# Altium schematic symbol library VoxPopuli.SCHLIB: 2 symbols
Pins are listed as number, name and electrical type; pins without a type are passive.

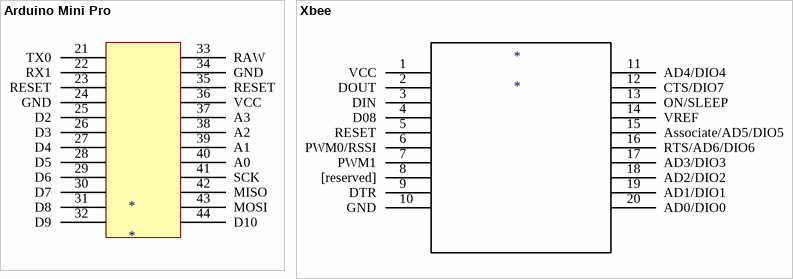
[diagram p0: symbols Arduino Mini Pro to Xbee]

## Arduino Mini Pro
designator *
Arduino Board
footprint Arduino DIP
pins: 21 TX0, 22 RX1, 23 RESET, 24 GND, 25 D2, 26 D3, 27 D4, 28 D5, 29 D6, 30 D7, 31 D8, 32 D9, 33 RAW, 34 GND, 35 RESET, 36 VCC, 37 A3, 38 A2, 39 A1, 40 A0, 41 SCK, 42 MISO, 43 MOSI, 44 D10

## Xbee
designator *
Xbee Card
footprint Xbee DIP
pins: 1 VCC, 2 DOUT, 3 DIN, 4 D08, 5 RESET, 6 PWM0/RSSI, 7 PWM1, 8 [reserved], 9 DTR, 10 GND, 11 AD4/DIO4, 12 CTS/DIO7, 13 ON/SLEEP, 14 VREF, 15 Associate/AD5/DIO5, 16 RTS/AD6/DIO6, 17 AD3/DIO3, 18 AD2/DIO2, 19 AD1/DIO1, 20 AD0/DIO0